# EAGLE library part DSP_CARD_SLOT_2MM (library F030NG)
Standard Card Edge Connectors 100 VRT 50DP Source: Datasheet <https://www.te.com/commerce/DocumentDelivery/DDEController?Action=srchrtrv&DocNm=5530843&DocType=Customer Drawing&DocLang=English&PartCntxt=5530843-5&DocFormat=pdf>
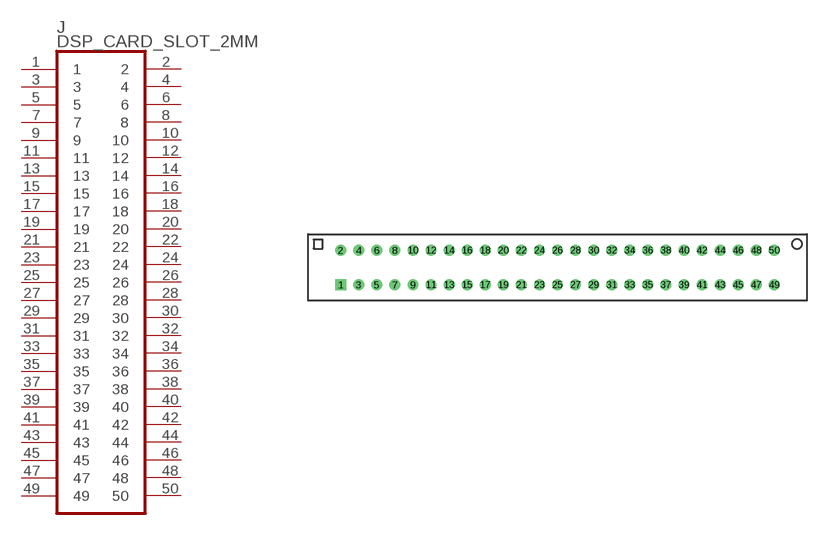
[diagram p97: symbol with the pads of 55308435; footprint 55308435]

Designator prefix J

## DSP_CARD_SLOT_2MM (DESCRIPTION: Standard Card Edge Connectors 100 VRT 50DP; HEIGHT: 15.494mm; MANUFACTURER_NAME: TE Connectivity; MANUFACTURER_PART_NUMBER: 5530843-5; MOUSER_PART_NUMBER: 571-5530843-5; MOUSER_PRICE-STOCK: https://www.mouser.co.uk/ProductDetail/TE-Connectivity/5530843-5?qs=4hg9R9g9MDs2Hy6WGw1quQ%3D%3D)  [55308435]
1  1
2  2
3  3
4  4
5  5
6  6
7  7
8  8
9  9
10  10
11  11
12  12
13  13
14  14
15  15
16  16
17  17
18  18
19  19
20  20
21  21
22  22
23  23
24  24
25  25
26  26
27  27
28  28
29  29
30  30
31  31
32  32
33  33
34  34
35  35
36  36
37  37
38  38
39  39
40  40
41  41
42  42
43  43
44  44
45  45
46  46
47  47
48  48
49  49
50  50

## Footprint 55308435 (pad centres in mm)
5530843-5-1
drill 1 pad 1.524 square: 1 0,0
drill 1 pad 1.524: 2 0,4.851; 3 2.54,0; 4 2.54,4.851; 5 5.08,0; 6 5.08,4.851; 7 7.62,0; 8 7.62,4.851; 9 10.16,0; 10 10.16,4.851; 11 12.7,0; 12 12.7,4.851; 13 15.24,0; 14 15.24,4.851; 15 17.78,0; 16 17.78,4.851; 17 20.32,0; 18 20.32,4.851; 19 22.86,0; 20 22.86,4.851; 21 25.4,0; 22 25.4,4.851; 23 27.94,0; 24 27.94,4.851; 25 30.48,0; 26 30.48,4.851; 27 33.02,0; 28 33.02,4.851; 29 35.56,0; 30 35.56,4.851; 31 38.1,0; 32 38.1,4.851; 33 40.64,0; 34 40.64,4.851; 35 43.18,0; 36 43.18,4.851; 37 45.72,0; 38 45.72,4.851; 39 48.26,0; 40 48.26,4.851; 41 50.8,0; 42 50.8,4.851; 43 53.34,0; 44 53.34,4.851; 45 55.88,0; 46 55.88,4.851; 47 58.42,0; 48 58.42,4.851; 49 60.96,0; 50 60.96,4.851